# Altium schematic symbol library TP_1.SchLib: 1 symbol
Pins are listed as number, name and electrical type; pins without a type are passive.

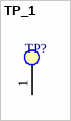
[diagram p0: symbol TP_1]

## TP_1
designator TP?  (value not drawn)
Single pin test point
pins: 1